# Altium schematic symbol library M20-9990345.SchLib: 2 symbols
Pins are listed as number, name and electrical type; pins without a type are passive.

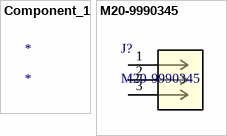
[diagram p0: symbols Component_1 to M20-9990345]

## Component_1
designator *

## M20-9990345
designator J?
No Description Available; Mfr_Name: Harwin; Copyright: Copyright (C) 2022 Ultra Librarian. All rights reserved.; Manufacturer_Part_Number: M20-9990345; RefDes: RefDes; Type: DEV
footprint CONN_M20-99903XX_HRW
pins: 1, 2, 3